# Altium integrated library NSC Switcher.IntLib: 2027 symbols (part 40 of 54)
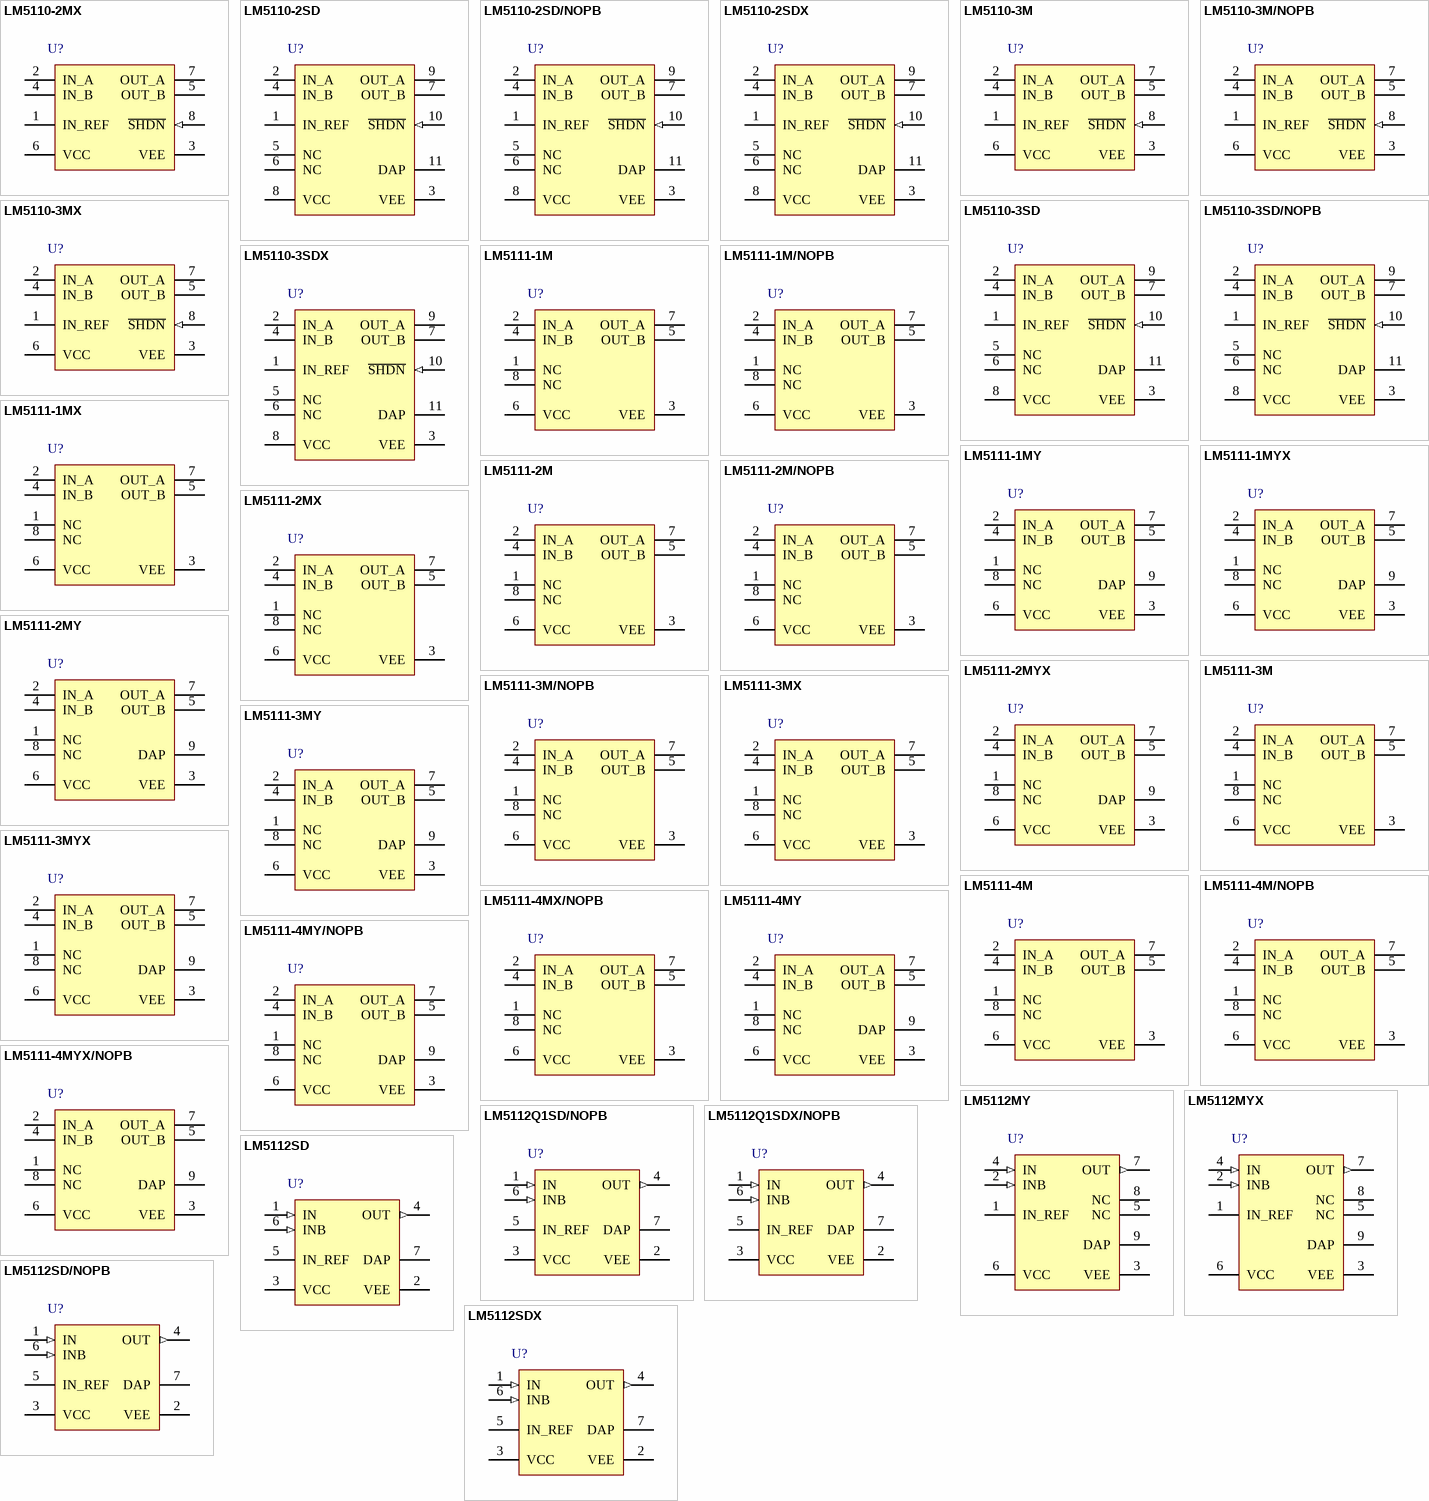
[diagram p102: symbols LM5110-2MX to LM5112SDX]

## LM5111-4MY
designator U?
Dual 5A Compound Gate Driver, 8-pin eMSOP; PartNumber: LM5111-4MY; Manufacturer: National Semiconductor; PackageTopMarking: ZXTT*SSYB; PowerWise: N; CompType: Switcher; Published: 4-Dec-2008; DatasheetVersion: Nov-2007; PackageVersion: revA, Nov-2003; PackageReference: MUY08A; Publisher: Altium Limited; PackageDescription: Molded Mini-SO, Exposed Pad, .118 x .118 x .034in Body, 8 Lead, .0256in Pitch; RoHS: Y; PinCount: 8; Code_JEDEC: MO-187-AA; ComponentLink1Description: LM5111 Datasheet; ComponentLink1URL: http://www.national.com/ds/LM/LM5111.pdf; ComponentLink2Description: LM5111 Web Page; ComponentLink2URL: http://www.national.com/pf/LM/LM5111.html; ComponentLink3Description: MUY08A Package Page; ComponentLink3URL: http://www.national.com/packaging/folders/muy08a.html
footprint MUY08A_N (TSOP, 8-Leads, Body 3x3mm, Pitch 0.65mm, Exposed Pad, IPC Medium Density)
footprint MUY08A_L (TSOP, 8-Leads, Body 3x3mm, Pitch 0.65mm, Exposed Pad, IPC High Density)
footprint MUY08A_M (TSOP, 8-Leads, Body 3x3mm, Pitch 0.65mm, Exposed Pad, IPC Low Density)
pins: 1 NC, 2 IN_A (power), 3 VEE (power), 4 IN_B (power), 5 OUT_B (power), 6 VCC (power), 7 OUT_A (power), 8 NC, 9 DAP (power)

## LM5111-4MY/NOPB
designator U?
Dual 5A Compound Gate Driver, 8-pin eMSOP, Pb-Free; PartNumber: LM5111-4MY/NOPB; Manufacturer: National Semiconductor; PackageTopMarking: ZXTT*SSYB; PowerWise: N; CompType: Switcher; Published: 1-Mar-2010; DatasheetVersion: Nov-2007; PackageVersion: revA, Nov-2003; PackageReference: MUY08A; Publisher: Altium Limited; PackageDescription: Molded Mini-SO, Exposed Pad, .118 x .118 x .034in Body, 8 Lead, .0256in Pitch; Supplier 1: Digi-Key; Supplier Part Number 1: LM5111-4MYTR-ND; Supplier 2: Digi-Key; Supplier Part Number 2: LM5111-4MYCT-ND; Supplier 3: Digi-Key; Supplier Part Number 3: LM5111-4MYDKR-ND; Supplier 4: Farnell; Supplier Part Number 4: 1685350; RoHS: Y; PinCount: 8; Code_JEDEC: MO-187-AA; ComponentLink1Description: LM5111 Datasheet; ComponentLink1URL: http://www.national.com/ds/LM/LM5111.pdf; ComponentLink2Description: LM5111 Web Page; ComponentLink2URL: http://www.national.com/pf/LM/LM5111.html; ComponentLink3Description: MUY08A Package Page; ComponentLink3URL: http://www.national.com/packaging/folders/muy08a.html
footprint MUY08A_N (TSOP, 8-Leads, Body 3x3mm, Pitch 0.65mm, Exposed Pad, IPC Medium Density)
footprint MUY08A_L (TSOP, 8-Leads, Body 3x3mm, Pitch 0.65mm, Exposed Pad, IPC High Density)
footprint MUY08A_M (TSOP, 8-Leads, Body 3x3mm, Pitch 0.65mm, Exposed Pad, IPC Low Density)
pins: 1 NC, 2 IN_A (power), 3 VEE (power), 4 IN_B (power), 5 OUT_B (power), 6 VCC (power), 7 OUT_A (power), 8 NC, 9 DAP (power)

## LM5111-4MYX/NOPB
designator U?
Dual 5A Compound Gate Driver, 8-pin eMSOP, Pb-Free; PartNumber: LM5111-4MYX/NOPB; Manufacturer: National Semiconductor; PackageTopMarking: ZXTT*SSYB; PowerWise: N; CompType: Switcher; Published: 1-Mar-2010; DatasheetVersion: Nov-2007; PackageVersion: revA, Nov-2003; PackageReference: MUY08A; Publisher: Altium Limited; PackageDescription: Molded Mini-SO, Exposed Pad, .118 x .118 x .034in Body, 8 Lead, .0256in Pitch; Supplier 1: Digi-Key; Supplier Part Number 1: LM5111-4MYX-ND; RoHS: Y; PinCount: 8; Code_JEDEC: MO-187-AA; ComponentLink1Description: LM5111 Datasheet; ComponentLink1URL: http://www.national.com/ds/LM/LM5111.pdf; ComponentLink2Description: LM5111 Web Page; ComponentLink2URL: http://www.national.com/pf/LM/LM5111.html; ComponentLink3Description: MUY08A Package Page; ComponentLink3URL: http://www.national.com/packaging/folders/muy08a.html
footprint MUY08A_N (TSOP, 8-Leads, Body 3x3mm, Pitch 0.65mm, Exposed Pad, IPC Medium Density)
footprint MUY08A_L (TSOP, 8-Leads, Body 3x3mm, Pitch 0.65mm, Exposed Pad, IPC High Density)
footprint MUY08A_M (TSOP, 8-Leads, Body 3x3mm, Pitch 0.65mm, Exposed Pad, IPC Low Density)
pins: 1 NC, 2 IN_A (power), 3 VEE (power), 4 IN_B (power), 5 OUT_B (power), 6 VCC (power), 7 OUT_A (power), 8 NC, 9 DAP (power)

## LM5112MY
designator U?
Tiny 7A MOSFET Gate Driver, 8-pin eMSOP; PartNumber: LM5112MY; Manufacturer: National Semiconductor; PackageTopMarking: ZXTT*SJJB; PowerWise: N; CompType: Switcher; Published: 4-Dec-2008; DatasheetVersion: Apr-2006; PackageVersion: revA, Nov-2003; PackageReference: MUY08A; Publisher: Altium Limited; PackageDescription: Molded Mini-SO, Exposed Pad, .118 x .118 x .034in Body, 8 Lead, .0256in Pitch; Supplier 1: Farnell; Supplier Part Number 1: 1312597; RoHS: N; PinCount: 8; Code_JEDEC: MO-187-AA; ComponentLink1Description: LM5112 Datasheet; ComponentLink1URL: http://www.national.com/ds/LM/LM5112.pdf; ComponentLink2Description: LM5112 Web Page; ComponentLink2URL: http://www.national.com/pf/LM/LM5112.html; ComponentLink3Description: MUY08A Package Page; ComponentLink3URL: http://www.national.com/packaging/folders/muy08a.html
footprint MUY08A_N (TSOP, 8-Leads, Body 3x3mm, Pitch 0.65mm, Exposed Pad, IPC Medium Density)
footprint MUY08A_L (TSOP, 8-Leads, Body 3x3mm, Pitch 0.65mm, Exposed Pad, IPC High Density)
footprint MUY08A_M (TSOP, 8-Leads, Body 3x3mm, Pitch 0.65mm, Exposed Pad, IPC Low Density)
pins: 1 IN_REF (power), 2 INB (in), 3 VEE (power), 4 IN (in), 5 NC, 6 VCC (power), 7 OUT (out), 8 NC, 9 DAP (power)

## LM5112MYX
designator U?
Tiny 7A MOSFET Gate Driver, 8-pin eMSOP; PartNumber: LM5112MYX; Manufacturer: National Semiconductor; PackageTopMarking: ZXTT*SJJB; PowerWise: N; CompType: Switcher; Published: 1-Mar-2010; DatasheetVersion: Apr-2006; PackageVersion: revA, Nov-2003; PackageReference: MUY08A; Publisher: Altium Limited; PackageDescription: Molded Mini-SO, Exposed Pad, .118 x .118 x .034in Body, 8 Lead, .0256in Pitch; RoHS: N; PinCount: 8; Code_JEDEC: MO-187-AA; ComponentLink1Description: LM5112 Datasheet; ComponentLink1URL: http://www.national.com/ds/LM/LM5112.pdf; ComponentLink2Description: LM5112 Web Page; ComponentLink2URL: http://www.national.com/pf/LM/LM5112.html; ComponentLink3Description: MUY08A Package Page; ComponentLink3URL: http://www.national.com/packaging/folders/muy08a.html
footprint MUY08A_N (TSOP, 8-Leads, Body 3x3mm, Pitch 0.65mm, Exposed Pad, IPC Medium Density)
footprint MUY08A_L (TSOP, 8-Leads, Body 3x3mm, Pitch 0.65mm, Exposed Pad, IPC High Density)
footprint MUY08A_M (TSOP, 8-Leads, Body 3x3mm, Pitch 0.65mm, Exposed Pad, IPC Low Density)
pins: 1 IN_REF (power), 2 INB (in), 3 VEE (power), 4 IN (in), 5 NC, 6 VCC (power), 7 OUT (out), 8 NC, 9 DAP (power)

## LM5112Q1SD/NOPB
designator U?
Tiny 7A MOSFET Gate Driver, 6-pin LLP, Pb-Free; PartNumber: LM5112Q1SD/NOPB; Manufacturer: National Semiconductor; PackageTopMarking: ZXYTT*L250B; PowerWise: N; CompType: Switcher; Published: 1-Mar-2010; DatasheetVersion: Apr-2006; PackageVersion: revA, Jul-2003; PackageReference: SDE06A; Publisher: Altium Limited; PackageDescription: LLP, Plastic, Dual, 3 x 3 x 0.8mm Body, 6 Lead, 0.95mm Pitch, No Pullback; Supplier 1: Digi-Key; Supplier Part Number 1: LM5112Q1SDTR-ND; Supplier 2: Digi-Key; Supplier Part Number 2: LM5112Q1SDCT-ND; Supplier 3: Digi-Key; Supplier Part Number 3: LM5112Q1SDDKR-ND; RoHS: Y; PinCount: 6; ComponentLink1Description: LM5112 Datasheet; ComponentLink1URL: http://www.national.com/ds/LM/LM5112.pdf; ComponentLink2Description: LM5112 Web Page; ComponentLink2URL: http://www.national.com/pf/LM/LM5112.html; ComponentLink3Description: SDE06A Package Page; ComponentLink3URL: http://www.national.com/packaging/folders/sde06a.html
footprint SDE06A_full (SON, 6-Leads, Body 3x3 mm, Pitch 0.95mm, Full Paste, NSC Recommended)
footprint SDE06A_quad (SON, 6-Leads, Body 3x3 mm, Pitch 0.95mm, Quad Paste, NSC Recommended)
pins: 1 IN (in), 2 VEE (power), 3 VCC (power), 4 OUT (out), 5 IN_REF (power), 6 INB (in), 7 DAP (power)

## LM5112Q1SDX/NOPB
designator U?
Tiny 7A MOSFET Gate Driver, 6-pin LLP, Pb-Free; PartNumber: LM5112Q1SDX/NOPB; Manufacturer: National Semiconductor; PackageTopMarking: ZXYTT*L250B; PowerWise: N; CompType: Switcher; Published: 1-Mar-2010; DatasheetVersion: Apr-2006; PackageVersion: revA, Jul-2003; PackageReference: SDE06A; Publisher: Altium Limited; PackageDescription: LLP, Plastic, Dual, 3 x 3 x 0.8mm Body, 6 Lead, 0.95mm Pitch, No Pullback; Supplier 1: Digi-Key; Supplier Part Number 1: LM5112Q1SDX/NOPB-ND; RoHS: Y; PinCount: 6; ComponentLink1Description: LM5112 Datasheet; ComponentLink1URL: http://www.national.com/ds/LM/LM5112.pdf; ComponentLink2Description: LM5112 Web Page; ComponentLink2URL: http://www.national.com/pf/LM/LM5112.html; ComponentLink3Description: SDE06A Package Page; ComponentLink3URL: http://www.national.com/packaging/folders/sde06a.html
footprint SDE06A_full (SON, 6-Leads, Body 3x3 mm, Pitch 0.95mm, Full Paste, NSC Recommended)
footprint SDE06A_quad (SON, 6-Leads, Body 3x3 mm, Pitch 0.95mm, Quad Paste, NSC Recommended)
pins: 1 IN (in), 2 VEE (power), 3 VCC (power), 4 OUT (out), 5 IN_REF (power), 6 INB (in), 7 DAP (power)

## LM5112SD
designator U?
Tiny 7A MOSFET Gate Driver, 6-pin LLP; PartNumber: LM5112SD; Manufacturer: National Semiconductor; PackageTopMarking: ZXYTT*L132B; PowerWise: N; CompType: Switcher; Published: 4-Dec-2008; DatasheetVersion: Apr-2006; PackageVersion: revA, Jul-2003; PackageReference: SDE06A; Publisher: Altium Limited; PackageDescription: LLP, Plastic, Dual, 3 x 3 x 0.8mm Body, 6 Lead, 0.95mm Pitch, No Pullback; RoHS: N; PinCount: 6; ComponentLink1Description: LM5112 Datasheet; ComponentLink1URL: http://www.national.com/ds/LM/LM5112.pdf; ComponentLink2Description: LM5112 Web Page; ComponentLink2URL: http://www.national.com/pf/LM/LM5112.html; ComponentLink3Description: SDE06A Package Page; ComponentLink3URL: http://www.national.com/packaging/folders/sde06a.html
footprint SDE06A_full (SON, 6-Leads, Body 3x3 mm, Pitch 0.95mm, Full Paste, NSC Recommended)
footprint SDE06A_quad (SON, 6-Leads, Body 3x3 mm, Pitch 0.95mm, Quad Paste, NSC Recommended)
pins: 1 IN (in), 2 VEE (power), 3 VCC (power), 4 OUT (out), 5 IN_REF (power), 6 INB (in), 7 DAP (power)

## LM5112SD/NOPB
designator U?
Tiny 7A MOSFET Gate Driver, 6-pin LLP, Pb-Free; PartNumber: LM5112SD/NOPB; Manufacturer: National Semiconductor; PackageTopMarking: ZXYTT*L132B; PowerWise: N; CompType: Switcher; Published: 1-Mar-2010; DatasheetVersion: Apr-2006; PackageVersion: revA, Jul-2003; PackageReference: SDE06A; Publisher: Altium Limited; PackageDescription: LLP, Plastic, Dual, 3 x 3 x 0.8mm Body, 6 Lead, 0.95mm Pitch, No Pullback; Supplier 1: Digi-Key; Supplier Part Number 1: LM5112SDTR-ND; Supplier 2: Digi-Key; Supplier Part Number 2: LM5112SDCT-ND; Supplier 3: Digi-Key; Supplier Part Number 3: LM5112SDDKR-ND; Supplier 4: Farnell; Supplier Part Number 4: 1685383; RoHS: Y; PinCount: 6; ComponentLink1Description: LM5112 Datasheet; ComponentLink1URL: http://www.national.com/ds/LM/LM5112.pdf; ComponentLink2Description: LM5112 Web Page; ComponentLink2URL: http://www.national.com/pf/LM/LM5112.html; ComponentLink3Description: SDE06A Package Page; ComponentLink3URL: http://www.national.com/packaging/folders/sde06a.html
footprint SDE06A_full (SON, 6-Leads, Body 3x3 mm, Pitch 0.95mm, Full Paste, NSC Recommended)
footprint SDE06A_quad (SON, 6-Leads, Body 3x3 mm, Pitch 0.95mm, Quad Paste, NSC Recommended)
pins: 1 IN (in), 2 VEE (power), 3 VCC (power), 4 OUT (out), 5 IN_REF (power), 6 INB (in), 7 DAP (power)

## LM5112SDX
designator U?
Tiny 7A MOSFET Gate Driver, 6-pin LLP; PartNumber: LM5112SDX; Manufacturer: National Semiconductor; PackageTopMarking: ZXYTT*L132B; PowerWise: N; CompType: Switcher; Published: 1-Mar-2010; DatasheetVersion: Apr-2006; PackageVersion: revA, Jul-2003; PackageReference: SDE06A; Publisher: Altium Limited; PackageDescription: LLP, Plastic, Dual, 3 x 3 x 0.8mm Body, 6 Lead, 0.95mm Pitch, No Pullback; RoHS: N; PinCount: 6; ComponentLink1Description: LM5112 Datasheet; ComponentLink1URL: http://www.national.com/ds/LM/LM5112.pdf; ComponentLink2Description: LM5112 Web Page; ComponentLink2URL: http://www.national.com/pf/LM/LM5112.html; ComponentLink3Description: SDE06A Package Page; ComponentLink3URL: http://www.national.com/packaging/folders/sde06a.html
footprint SDE06A_full (SON, 6-Leads, Body 3x3 mm, Pitch 0.95mm, Full Paste, NSC Recommended)
footprint SDE06A_quad (SON, 6-Leads, Body 3x3 mm, Pitch 0.95mm, Quad Paste, NSC Recommended)
pins: 1 IN (in), 2 VEE (power), 3 VCC (power), 4 OUT (out), 5 IN_REF (power), 6 INB (in), 7 DAP (power)

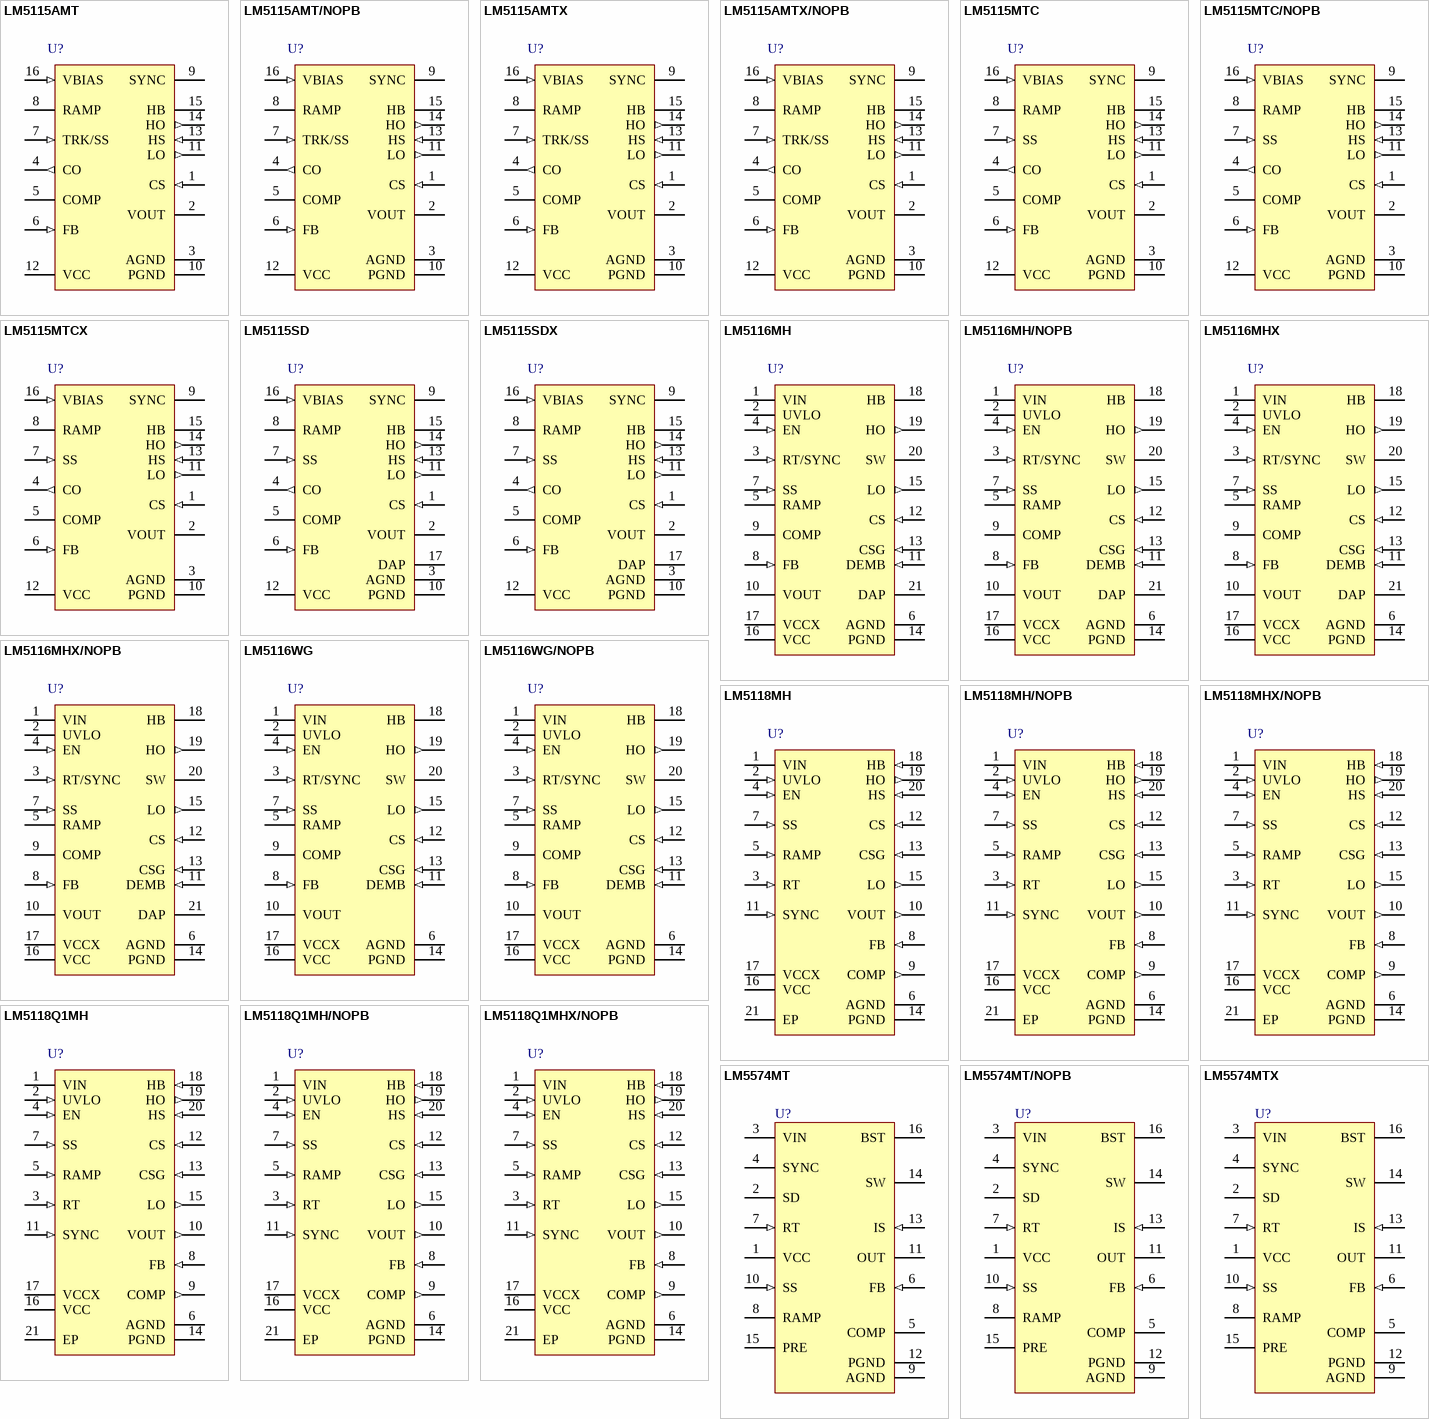
[diagram p44: symbols LM5115AMT to LM5574MTX]

## LM5115AMT
designator U?
Secondary Side Post Regulator / Synchronous Buck Controller, 16-pin TSSOP; PartNumber: LM5115AMT; Manufacturer: National Semiconductor; PackageTopMarking: NSUZXYTT*LM5115*AMT; PowerWise: N; CompType: Switcher; Published: 4-Dec-2008; DatasheetVersion: Jan-2007; PackageVersion: revD, Jun-2003; PackageReference: MTC16; Publisher: Altium Limited; PackageDescription: Molded TSSOP, Jedec, 5 x 4.4 x 0.9mm Body, 16 Lead, 0.65mm Pitch; Supplier 1: Farnell; Supplier Part Number 1: 1320977; RoHS: N; PinCount: 16; Code_JEDEC: MO-153-AB; ComponentLink1Description: LM5115A Datasheet; ComponentLink1URL: http://www.national.com/ds/LM/LM5115A.pdf; ComponentLink2Description: LM5115A Web Page; ComponentLink2URL: http://www.national.com/pf/LM/LM5115A.html; ComponentLink3Description: MTC16 Package Page; ComponentLink3URL: http://www.national.com/packaging/folders/mtc16.html
footprint MTC16_N (TSOP, 16-Leads, Body 5x4.4mm, Pitch 0.65mm, IPC Medium Density)
footprint MTC16_L (TSOP, 16-Leads, Body 5x4.4mm, Pitch 0.65mm, IPC High Density)
footprint MTC16_M (TSOP, 16-Leads, Body 5x4.4mm, Pitch 0.65mm, IPC Low Density)
pins: 1 CS (in), 2 VOUT, 3 AGND (power), 4 CO (out), 5 COMP, 6 FB (in), 7 TRK/SS (in), 8 RAMP, 9 SYNC, 10 PGND (power), 11 LO (out), 12 VCC (power), 13 HS (in), 14 HO (out), 15 HB, 16 VBIAS (in)

## LM5115AMT/NOPB
designator U?
Secondary Side Post Regulator/DC-DC Converter with Power-up/Power-down Tracking, 16-pin TSSOP, Pb-Free; PartNumber: LM5115AMT/NOPB; Manufacturer: National Semiconductor; PackageTopMarking: NSUZXYTT*LM5115*AMT; PowerWise: N; CompType: Switcher; Published: 1-Mar-2010; DatasheetVersion: Jan-2007; PackageVersion: revD, Jun-2003; PackageReference: MTC16; Publisher: Altium Limited; PackageDescription: Molded TSSOP, Jedec, 5 x 4.4 x 0.9mm Body, 16 Lead, 0.65mm Pitch; Supplier 1: Digi-Key; Supplier Part Number 1: LM5115AMT-ND; RoHS: Y; PinCount: 16; Code_JEDEC: MO-153-AB; ComponentLink1Description: LM5115A Datasheet; ComponentLink1URL: http://www.national.com/ds/LM/LM5115A.pdf; ComponentLink2Description: LM5115A Web Page; ComponentLink2URL: http://www.national.com/pf/LM/LM5115A.html; ComponentLink3Description: MTC16 Package Page; ComponentLink3URL: http://www.national.com/packaging/folders/mtc16.html
footprint MTC16_N (TSOP, 16-Leads, Body 5x4.4mm, Pitch 0.65mm, IPC Medium Density)
footprint MTC16_L (TSOP, 16-Leads, Body 5x4.4mm, Pitch 0.65mm, IPC High Density)
footprint MTC16_M (TSOP, 16-Leads, Body 5x4.4mm, Pitch 0.65mm, IPC Low Density)
pins: 1 CS (in), 2 VOUT, 3 AGND (power), 4 CO (out), 5 COMP, 6 FB (in), 7 TRK/SS (in), 8 RAMP, 9 SYNC, 10 PGND (power), 11 LO (out), 12 VCC (power), 13 HS (in), 14 HO (out), 15 HB, 16 VBIAS (in)

## LM5115AMTX
designator U?
Secondary Side Post Regulator/DC-DC Converter with Power-up/Power-down Tracking, 16-pin TSSOP; PartNumber: LM5115AMTX; Manufacturer: National Semiconductor; PackageTopMarking: NSUZXYTT*LM5115*AMT; PowerWise: N; CompType: Switcher; Published: 1-Mar-2010; DatasheetVersion: Jan-2007; PackageVersion: revD, Jun-2003; PackageReference: MTC16; Publisher: Altium Limited; PackageDescription: Molded TSSOP, Jedec, 5 x 4.4 x 0.9mm Body, 16 Lead, 0.65mm Pitch; RoHS: N; PinCount: 16; Code_JEDEC: MO-153-AB; ComponentLink1Description: LM5115A Datasheet; ComponentLink1URL: http://www.national.com/ds/LM/LM5115A.pdf; ComponentLink2Description: LM5115A Web Page; ComponentLink2URL: http://www.national.com/pf/LM/LM5115A.html; ComponentLink3Description: MTC16 Package Page; ComponentLink3URL: http://www.national.com/packaging/folders/mtc16.html
footprint MTC16_N (TSOP, 16-Leads, Body 5x4.4mm, Pitch 0.65mm, IPC Medium Density)
footprint MTC16_L (TSOP, 16-Leads, Body 5x4.4mm, Pitch 0.65mm, IPC High Density)
footprint MTC16_M (TSOP, 16-Leads, Body 5x4.4mm, Pitch 0.65mm, IPC Low Density)
pins: 1 CS (in), 2 VOUT, 3 AGND (power), 4 CO (out), 5 COMP, 6 FB (in), 7 TRK/SS (in), 8 RAMP, 9 SYNC, 10 PGND (power), 11 LO (out), 12 VCC (power), 13 HS (in), 14 HO (out), 15 HB, 16 VBIAS (in)

## LM5115AMTX/NOPB
designator U?
Secondary Side Post Regulator/DC-DC Converter with Power-up/Power-down Tracking, 16-pin TSSOP, Pb-Free; PartNumber: LM5115AMTX/NOPB; Manufacturer: National Semiconductor; PackageTopMarking: NSUZXYTT*LM5115*AMT; PowerWise: N; CompType: Switcher; Published: 1-Mar-2010; DatasheetVersion: Jan-2007; PackageVersion: revD, Jun-2003; PackageReference: MTC16; Publisher: Altium Limited; PackageDescription: Molded TSSOP, Jedec, 5 x 4.4 x 0.9mm Body, 16 Lead, 0.65mm Pitch; Supplier 1: Digi-Key; Supplier Part Number 1: LM5115AMTX-ND; RoHS: Y; PinCount: 16; Code_JEDEC: MO-153-AB; ComponentLink1Description: LM5115A Datasheet; ComponentLink1URL: http://www.national.com/ds/LM/LM5115A.pdf; ComponentLink2Description: LM5115A Web Page; ComponentLink2URL: http://www.national.com/pf/LM/LM5115A.html; ComponentLink3Description: MTC16 Package Page; ComponentLink3URL: http://www.national.com/packaging/folders/mtc16.html
footprint MTC16_N (TSOP, 16-Leads, Body 5x4.4mm, Pitch 0.65mm, IPC Medium Density)
footprint MTC16_L (TSOP, 16-Leads, Body 5x4.4mm, Pitch 0.65mm, IPC High Density)
footprint MTC16_M (TSOP, 16-Leads, Body 5x4.4mm, Pitch 0.65mm, IPC Low Density)
pins: 1 CS (in), 2 VOUT, 3 AGND (power), 4 CO (out), 5 COMP, 6 FB (in), 7 TRK/SS (in), 8 RAMP, 9 SYNC, 10 PGND (power), 11 LO (out), 12 VCC (power), 13 HS (in), 14 HO (out), 15 HB, 16 VBIAS (in)

## LM5115MTC
designator U?
Secondary Side Post Regulator / Synchronous Buck Controller, 16-pin TSSOP; PartNumber: LM5115MTC; Manufacturer: National Semiconductor; PackageTopMarking: NSUZXYTT*LM5115*MTC; PowerWise: N; CompType: Switcher; Published: 4-Dec-2008; DatasheetVersion: Jul-2006; PackageVersion: revD, Jun-2003; PackageReference: MTC16; Publisher: Altium Limited; PackageDescription: Molded TSSOP, Jedec, 5 x 4.4 x 0.9mm Body, 16 Lead, 0.65mm Pitch; Supplier 1: Farnell; Supplier Part Number 1: 1008034; RoHS: N; PinCount: 16; Code_JEDEC: MO-153-AB; ComponentLink1Description: LM5115 Datasheet; ComponentLink1URL: http://www.national.com/ds/LM/LM5115.pdf; ComponentLink2Description: LM5115 Web Page; ComponentLink2URL: http://www.national.com/pf/LM/LM5115.html; ComponentLink3Description: MTC16 Package Page; ComponentLink3URL: http://www.national.com/packaging/folders/mtc16.html
footprint MTC16_N (TSOP, 16-Leads, Body 5x4.4mm, Pitch 0.65mm, IPC Medium Density)
footprint MTC16_L (TSOP, 16-Leads, Body 5x4.4mm, Pitch 0.65mm, IPC High Density)
footprint MTC16_M (TSOP, 16-Leads, Body 5x4.4mm, Pitch 0.65mm, IPC Low Density)
pins: 1 CS (in), 2 VOUT, 3 AGND (power), 4 CO (out), 5 COMP, 6 FB (in), 7 SS (in), 8 RAMP, 9 SYNC, 10 PGND (power), 11 LO (out), 12 VCC (power), 13 HS (in), 14 HO (out), 15 HB, 16 VBIAS (in)

## LM5115MTC/NOPB
designator U?
Secondary Side Post Regulator / Synchronous Buck Controller, 16-pin TSSOP, Pb-Free; PartNumber: LM5115MTC/NOPB; Manufacturer: National Semiconductor; PackageTopMarking: NSUZXYTT*LM5115*MTC; PowerWise: N; CompType: Switcher; Published: 1-Mar-2010; DatasheetVersion: Jul-2006; PackageVersion: revD, Jun-2003; PackageReference: MTC16; Publisher: Altium Limited; PackageDescription: Molded TSSOP, Jedec, 5 x 4.4 x 0.9mm Body, 16 Lead, 0.65mm Pitch; Supplier 1: Digi-Key; Supplier Part Number 1: LM5115MTC-ND; Supplier 2: Farnell; Supplier Part Number 2: 1559522; RoHS: Y; PinCount: 16; Code_JEDEC: MO-153-AB; ComponentLink1Description: LM5115 Datasheet; ComponentLink1URL: http://www.national.com/ds/LM/LM5115.pdf; ComponentLink2Description: LM5115 Web Page; ComponentLink2URL: http://www.national.com/pf/LM/LM5115.html; ComponentLink3Description: MTC16 Package Page; ComponentLink3URL: http://www.national.com/packaging/folders/mtc16.html
footprint MTC16_N (TSOP, 16-Leads, Body 5x4.4mm, Pitch 0.65mm, IPC Medium Density)
footprint MTC16_L (TSOP, 16-Leads, Body 5x4.4mm, Pitch 0.65mm, IPC High Density)
footprint MTC16_M (TSOP, 16-Leads, Body 5x4.4mm, Pitch 0.65mm, IPC Low Density)
pins: 1 CS (in), 2 VOUT, 3 AGND (power), 4 CO (out), 5 COMP, 6 FB (in), 7 SS (in), 8 RAMP, 9 SYNC, 10 PGND (power), 11 LO (out), 12 VCC (power), 13 HS (in), 14 HO (out), 15 HB, 16 VBIAS (in)

## LM5115MTCX
designator U?
Secondary Side Post Regulator / Synchronous Buck Controller, 16-pin TSSOP; PartNumber: LM5115MTCX; Manufacturer: National Semiconductor; PackageTopMarking: NSUZXYTT*LM5115*MTC; PowerWise: N; CompType: Switcher; Published: 1-Mar-2010; DatasheetVersion: Jul-2006; PackageVersion: revD, Jun-2003; PackageReference: MTC16; Publisher: Altium Limited; PackageDescription: Molded TSSOP, Jedec, 5 x 4.4 x 0.9mm Body, 16 Lead, 0.65mm Pitch; RoHS: N; PinCount: 16; Code_JEDEC: MO-153-AB; ComponentLink1Description: LM5115 Datasheet; ComponentLink1URL: http://www.national.com/ds/LM/LM5115.pdf; ComponentLink2Description: LM5115 Web Page; ComponentLink2URL: http://www.national.com/pf/LM/LM5115.html; ComponentLink3Description: MTC16 Package Page; ComponentLink3URL: http://www.national.com/packaging/folders/mtc16.html
footprint MTC16_N (TSOP, 16-Leads, Body 5x4.4mm, Pitch 0.65mm, IPC Medium Density)
footprint MTC16_L (TSOP, 16-Leads, Body 5x4.4mm, Pitch 0.65mm, IPC High Density)
footprint MTC16_M (TSOP, 16-Leads, Body 5x4.4mm, Pitch 0.65mm, IPC Low Density)
pins: 1 CS (in), 2 VOUT, 3 AGND (power), 4 CO (out), 5 COMP, 6 FB (in), 7 SS (in), 8 RAMP, 9 SYNC, 10 PGND (power), 11 LO (out), 12 VCC (power), 13 HS (in), 14 HO (out), 15 HB, 16 VBIAS (in)

## LM5115SD
designator U?
Secondary Side Post Regulator / Synchronous Buck Controller, 16-pin LLP; PartNumber: LM5115SD; Manufacturer: National Semiconductor; PackageTopMarking: NS*UZXYTT*5115SD; PowerWise: N; CompType: Switcher; Published: 4-Dec-2008; DatasheetVersion: Jul-2006; PackageVersion: revA, May-2003; PackageReference: SDA16A; Publisher: Altium Limited; PackageDescription: LLP, Plastic, Dual, 5 x 5 x 0.8mm Body,16 Lead, 0.5mm Pitch, No Pullback; RoHS: N; PinCount: 16; ComponentLink1Description: LM5115 Datasheet; ComponentLink1URL: http://www.national.com/ds/LM/LM5115.pdf; ComponentLink2Description: LM5115 Web Page; ComponentLink2URL: http://www.national.com/pf/LM/LM5115.html; ComponentLink3Description: SDA16A Package Page; ComponentLink3URL: http://www.national.com/packaging/folders/sda16a.html
footprint SDA16A (SON, 16-Leads, Body 5x5mm, Pitch 0.5mm, NSC Recommended)
pins: 1 CS (in), 2 VOUT, 3 AGND (power), 4 CO (out), 5 COMP, 6 FB (in), 7 SS (in), 8 RAMP, 9 SYNC, 10 PGND (power), 11 LO (out), 12 VCC (power), 13 HS (in), 14 HO (out), 15 HB, 16 VBIAS (in), 17 DAP (power)

## LM5115SDX
designator U?
Secondary Side Post Regulator / Synchronous Buck Controller, 16-pin LLP; PartNumber: LM5115SDX; Manufacturer: National Semiconductor; PackageTopMarking: NS*UZXYTT*5115SD; PowerWise: N; CompType: Switcher; Published: 1-Mar-2010; DatasheetVersion: Jul-2006; PackageVersion: revA, May-2003; PackageReference: SDA16A; Publisher: Altium Limited; PackageDescription: LLP, Plastic, Dual, 5 x 5 x 0.8mm Body,16 Lead, 0.5mm Pitch, No Pullback; RoHS: N; PinCount: 16; ComponentLink1Description: LM5115 Datasheet; ComponentLink1URL: http://www.national.com/ds/LM/LM5115.pdf; ComponentLink2Description: LM5115 Web Page; ComponentLink2URL: http://www.national.com/pf/LM/LM5115.html; ComponentLink3Description: SDA16A Package Page; ComponentLink3URL: http://www.national.com/packaging/folders/sda16a.html
footprint SDA16A (SON, 16-Leads, Body 5x5mm, Pitch 0.5mm, NSC Recommended)
pins: 1 CS (in), 2 VOUT, 3 AGND (power), 4 CO (out), 5 COMP, 6 FB (in), 7 SS (in), 8 RAMP, 9 SYNC, 10 PGND (power), 11 LO (out), 12 VCC (power), 13 HS (in), 14 HO (out), 15 HB, 16 VBIAS (in), 17 DAP (power)

## LM5116MH
designator U?
Wide Range Synchronous Buck Controller, 20-pin TSSOP-EP; PartNumber: LM5116MH; Manufacturer: National Semiconductor; PackageTopMarking: NSUZXYTT*LM5116*MH; PowerWise: Y; CompType: Switcher; Published: 4-Dec-2008; DatasheetVersion: Nov-2008; PackageVersion: revC, Jul-2006; PackageReference: MXA20A; Publisher: Altium Limited; PackageDescription: Molded TSSOP, Jedec, 6.5 x 4.4 x 0.9mm Body, 20 Lead, 0.65mm Pitch, Exposed Pad; Supplier 1: Farnell; Supplier Part Number 1: 1342345; RoHS: N; PinCount: 20; Code_JEDEC: MO-153-ACT; ComponentLink1Description: LM5116 Datasheet; ComponentLink1URL: http://www.national.com/ds/LM/LM5116.pdf; ComponentLink2Description: LM5116 Web Page; ComponentLink2URL: http://www.national.com/pf/LM/LM5116.html; ComponentLink3Description: MXA20A Package Page; ComponentLink3URL: http://www.national.com/packaging/folders/mxa20a.html
footprint MXA20A_N (TSOP, 20-Leads, Body 6.5x4.4mm, Pitch 0.65mm, Exposed Pad, IPC Medium Density)
footprint MXA20A_L (TSOP, 20-Leads, Body 6.5x4.4mm, Pitch 0.65mm, Exposed Pad, IPC High Density)
footprint MXA20A_M (TSOP, 20-Leads, Body 6.5x4.4mm, Pitch 0.65mm, Exposed Pad, IPC Low Density)
pins: 1 VIN (power), 2 UVLO, 3 RT/SYNC (in), 4 EN (in), 5 RAMP, 6 AGND (power), 7 SS (in), 8 FB (in), 9 COMP, 10 VOUT, 11 DEMB (in), 12 CS (in), 13 CSG (in), 14 PGND (power), 15 LO (out), 16 VCC (power), 17 VCCX (power), 18 HB, 19 HO (out), 20 SW (power), 21 DAP (power)

## LM5116MH/NOPB
designator U?
Wide Range Synchronous Buck Controller, 20-pin TSSOP-EP, Pb-Free; PartNumber: LM5116MH/NOPB; Manufacturer: National Semiconductor; PackageTopMarking: NSUZXYTT*LM5116*MH; PowerWise: Y; CompType: Switcher; Published: 1-Mar-2010; DatasheetVersion: Nov-2008; PackageVersion: revC, Jul-2006; PackageReference: MXA20A; Publisher: Altium Limited; PackageDescription: Molded TSSOP, Jedec, 6.5 x 4.4 x 0.9mm Body, 20 Lead, 0.65mm Pitch, Exposed Pad; Supplier 1: Digi-Key; Supplier Part Number 1: LM5116MH-ND; Supplier 2: Farnell; Supplier Part Number 2: 1419086; RoHS: Y; PinCount: 20; Code_JEDEC: MO-153-ACT; ComponentLink1Description: LM5116 Datasheet; ComponentLink1URL: http://www.national.com/ds/LM/LM5116.pdf; ComponentLink2Description: LM5116 Web Page; ComponentLink2URL: http://www.national.com/pf/LM/LM5116.html; ComponentLink3Description: MXA20A Package Page; ComponentLink3URL: http://www.national.com/packaging/folders/mxa20a.html
footprint MXA20A_N (TSOP, 20-Leads, Body 6.5x4.4mm, Pitch 0.65mm, Exposed Pad, IPC Medium Density)
footprint MXA20A_L (TSOP, 20-Leads, Body 6.5x4.4mm, Pitch 0.65mm, Exposed Pad, IPC High Density)
footprint MXA20A_M (TSOP, 20-Leads, Body 6.5x4.4mm, Pitch 0.65mm, Exposed Pad, IPC Low Density)
pins: 1 VIN (power), 2 UVLO, 3 RT/SYNC (in), 4 EN (in), 5 RAMP, 6 AGND (power), 7 SS (in), 8 FB (in), 9 COMP, 10 VOUT, 11 DEMB (in), 12 CS (in), 13 CSG (in), 14 PGND (power), 15 LO (out), 16 VCC (power), 17 VCCX (power), 18 HB, 19 HO (out), 20 SW (power), 21 DAP (power)

## LM5116MHX
designator U?
Wide Range Synchronous Buck Controller, 20-pin TSSOP-EP; PartNumber: LM5116MHX; Manufacturer: National Semiconductor; PackageTopMarking: NSUZXYTT*LM5116*MH; PowerWise: Y; CompType: Switcher; Published: 1-Mar-2010; DatasheetVersion: Nov-2008; PackageVersion: revC, Jul-2006; PackageReference: MXA20A; Publisher: Altium Limited; PackageDescription: Molded TSSOP, Jedec, 6.5 x 4.4 x 0.9mm Body, 20 Lead, 0.65mm Pitch, Exposed Pad; RoHS: N; PinCount: 20; Code_JEDEC: MO-153-ACT; ComponentLink1Description: LM5116 Datasheet; ComponentLink1URL: http://www.national.com/ds/LM/LM5116.pdf; ComponentLink2Description: LM5116 Web Page; ComponentLink2URL: http://www.national.com/pf/LM/LM5116.html; ComponentLink3Description: MXA20A Package Page; ComponentLink3URL: http://www.national.com/packaging/folders/mxa20a.html
footprint MXA20A_N (TSOP, 20-Leads, Body 6.5x4.4mm, Pitch 0.65mm, Exposed Pad, IPC Medium Density)
footprint MXA20A_L (TSOP, 20-Leads, Body 6.5x4.4mm, Pitch 0.65mm, Exposed Pad, IPC High Density)
footprint MXA20A_M (TSOP, 20-Leads, Body 6.5x4.4mm, Pitch 0.65mm, Exposed Pad, IPC Low Density)
pins: 1 VIN (power), 2 UVLO, 3 RT/SYNC (in), 4 EN (in), 5 RAMP, 6 AGND (power), 7 SS (in), 8 FB (in), 9 COMP, 10 VOUT, 11 DEMB (in), 12 CS (in), 13 CSG (in), 14 PGND (power), 15 LO (out), 16 VCC (power), 17 VCCX (power), 18 HB, 19 HO (out), 20 SW (power), 21 DAP (power)

## LM5116MHX/NOPB
designator U?
Wide Range Synchronous Buck Controller, 20-pin TSSOP-EP, Pb-Free; PartNumber: LM5116MHX/NOPB; Manufacturer: National Semiconductor; PackageTopMarking: NSUZXYTT*LM5116*MH; PowerWise: Y; CompType: Switcher; Published: 1-Mar-2010; DatasheetVersion: Nov-2008; PackageVersion: revC, Jul-2006; PackageReference: MXA20A; Publisher: Altium Limited; PackageDescription: Molded TSSOP, Jedec, 6.5 x 4.4 x 0.9mm Body, 20 Lead, 0.65mm Pitch, Exposed Pad; Supplier 1: Digi-Key; Supplier Part Number 1: LM5116MHX-ND; RoHS: Y; PinCount: 20; Code_JEDEC: MO-153-ACT; ComponentLink1Description: LM5116 Datasheet; ComponentLink1URL: http://www.national.com/ds/LM/LM5116.pdf; ComponentLink2Description: LM5116 Web Page; ComponentLink2URL: http://www.national.com/pf/LM/LM5116.html; ComponentLink3Description: MXA20A Package Page; ComponentLink3URL: http://www.national.com/packaging/folders/mxa20a.html
footprint MXA20A_N (TSOP, 20-Leads, Body 6.5x4.4mm, Pitch 0.65mm, Exposed Pad, IPC Medium Density)
footprint MXA20A_L (TSOP, 20-Leads, Body 6.5x4.4mm, Pitch 0.65mm, Exposed Pad, IPC High Density)
footprint MXA20A_M (TSOP, 20-Leads, Body 6.5x4.4mm, Pitch 0.65mm, Exposed Pad, IPC Low Density)
pins: 1 VIN (power), 2 UVLO, 3 RT/SYNC (in), 4 EN (in), 5 RAMP, 6 AGND (power), 7 SS (in), 8 FB (in), 9 COMP, 10 VOUT, 11 DEMB (in), 12 CS (in), 13 CSG (in), 14 PGND (power), 15 LO (out), 16 VCC (power), 17 VCCX (power), 18 HB, 19 HO (out), 20 SW (power), 21 DAP (power)

## LM5116WG
designator U?
Wide Range Synchronous Buck Controller, 20-pin CerPACK; PartNumber: LM5116WG; Manufacturer: National Semiconductor; PackageTopMarking: NSUZXYTT*LM5116WG; PowerWise: Y; CompType: Switcher; Published: 4-Dec-2008; DatasheetVersion: Oct-2008; PackageVersion: revD, Aug-2008; PackageReference: WG20A; Publisher: Altium Limited; PackageDescription: Cerpack, .540 x .266 x .075in, 20 Lead, .050in Pitch, Gull Wing; RoHS: Y; PinCount: 20; ComponentLink1Description: LM5116WG Datasheet; ComponentLink1URL: http://www.national.com/ds/LM/LM5116WG.pdf; ComponentLink2Description: LM5116WG Web Page; ComponentLink2URL: http://www.national.com/pf/LM/LM5116WG.html; ComponentLink3Description: WG20A Package Page; ComponentLink3URL: http://www.national.com/packaging/folders/wg20a.html
footprint WG20A_N (CERPACK, 20-Leads, Body 26.6x9.4mm, Pitch 1.27mm, IPC Medium Density)
footprint WG20A_L (CERPACK, 20-Leads, Body 26.6x9.4mm, Pitch 1.27mm, IPC High Density)
footprint WG20A_M (CERPACK, 20-Leads, Body 26.6x9.4mm, Pitch 1.27mm, IPC Low Density)
pins: 1 VIN (power), 2 UVLO, 3 RT/SYNC (in), 4 EN (in), 5 RAMP, 6 AGND (power), 7 SS (in), 8 FB (in), 9 COMP, 10 VOUT, 11 DEMB (in), 12 CS (in), 13 CSG (in), 14 PGND (power), 15 LO (out), 16 VCC (power), 17 VCCX (power), 18 HB, 19 HO (out), 20 SW (power)

## LM5116WG/NOPB
designator U?
Wide Range Synchronous Buck Controller, 20-pin CerPACK, Pb-Free; PartNumber: LM5116WG/NOPB; Manufacturer: National Semiconductor; PackageTopMarking: NSUZXYTTE#*LM5116WG; PowerWise: Y; CompType: Switcher; Published: 1-Mar-2010; DatasheetVersion: Oct-2008; PackageVersion: revD, Aug-2008; PackageReference: WG20A; Publisher: Altium Limited; PackageDescription: Cerpack, .540 x .266 x .075in, 20 Lead, .050in Pitch, Gull Wing; RoHS: Y; PinCount: 20; ComponentLink1Description: LM5116WG Datasheet; ComponentLink1URL: http://www.national.com/ds/LM/LM5116WG.pdf; ComponentLink2Description: LM5116WG Web Page; ComponentLink2URL: http://www.national.com/pf/LM/LM5116WG.html; ComponentLink3Description: WG20A Package Page; ComponentLink3URL: http://www.national.com/packaging/folders/wg20a.html
footprint WG20A_N (CERPACK, 20-Leads, Body 26.6x9.4mm, Pitch 1.27mm, IPC Medium Density)
footprint WG20A_L (CERPACK, 20-Leads, Body 26.6x9.4mm, Pitch 1.27mm, IPC High Density)
footprint WG20A_M (CERPACK, 20-Leads, Body 26.6x9.4mm, Pitch 1.27mm, IPC Low Density)
pins: 1 VIN (power), 2 UVLO, 3 RT/SYNC (in), 4 EN (in), 5 RAMP, 6 AGND (power), 7 SS (in), 8 FB (in), 9 COMP, 10 VOUT, 11 DEMB (in), 12 CS (in), 13 CSG (in), 14 PGND (power), 15 LO (out), 16 VCC (power), 17 VCCX (power), 18 HB, 19 HO (out), 20 SW (power)

## LM5118MH
designator U?
Wide Voltage Range Buck-Boost Controller, 20-pin TSSOP-EP; PartNumber: LM5118MH; Manufacturer: National Semiconductor; PackageTopMarking: NSUZXYTT*LM5118*MH; PowerWise: Y; CompType: Switcher; Published: 4-Dec-2008; LatestRevisionDate: 09-Oct-2009; LatestRevisionNote: pin added for EP.; DatasheetVersion: Jul-2009; PackageVersion: revC, Jul-2006; PackageReference: MXA20A; Publisher: Altium Limited; PackageDescription: Molded TSSOP, Jedec, 6.5 x 4.4 x 0.9mm Body, 20 Lead, 0.65mm Pitch, Exposed Pad; Supplier 1: Farnell; Supplier Part Number 1: 1609187; RoHS: Y; PinCount: 20; Code_JEDEC: MO-153-ACT; ComponentLink1Description: LM5118 Datasheet; ComponentLink1URL: http://www.national.com/ds/LM/LM5118.pdf; ComponentLink2Description: LM5118 Web Page; ComponentLink2URL: http://www.national.com/pf/LM/LM5118.html; ComponentLink3Description: MXA20A Package Page; ComponentLink3URL: http://www.national.com/packaging/folders/mxa20a.html
footprint MXA20A_N (TSOP, 20-Leads, Body 6.5x4.4mm, Pitch 0.65mm, Exposed Pad, IPC Medium Density)
footprint MXA20A_L (TSOP, 20-Leads, Body 6.5x4.4mm, Pitch 0.65mm, Exposed Pad, IPC High Density)
footprint MXA20A_M (TSOP, 20-Leads, Body 6.5x4.4mm, Pitch 0.65mm, Exposed Pad, IPC Low Density)
pins: 1 VIN (power), 2 UVLO (in), 3 RT (in), 4 EN (in), 5 RAMP (in), 6 AGND (power), 7 SS (in), 8 FB (in), 9 COMP (out), 10 VOUT (out), 11 SYNC (in), 12 CS (in), 13 CSG (in), 14 PGND (power), 15 LO (out), 16 VCC (power), 17 VCCX (power), 18 HB (in), 19 HO (out), 20 HS (in), 21 EP (power)

## LM5118MH/NOPB
designator U?
Wide Voltage Range Buck-Boost Controller, 20-pin TSSOP-EP, Pb-Free; PartNumber: LM5118MH/NOPB; Manufacturer: National Semiconductor; PackageTopMarking: NSUZXYTT*LM5118*MH; PowerWise: Y; CompType: Switcher; Published: 1-Mar-2010; DatasheetVersion: Jul-2009; PackageVersion: revC, Jul-2006; PackageReference: MXA20A; Publisher: Altium Limited; PackageDescription: Molded TSSOP, Jedec, 6.5 x 4.4 x 0.9mm Body, 20 Lead, 0.65mm Pitch, Exposed Pad; Supplier 1: Digi-Key; Supplier Part Number 1: LM5118MH-ND; Supplier 2: Farnell; Supplier Part Number 2: 1606457; RoHS: Y; PinCount: 20; Code_JEDEC: MO-153-ACT; ComponentLink1Description: LM5118 Datasheet; ComponentLink1URL: http://www.national.com/ds/LM/LM5118.pdf; ComponentLink2Description: LM5118 Web Page; ComponentLink2URL: http://www.national.com/pf/LM/LM5118.html; ComponentLink3Description: MXA20A Package Page; ComponentLink3URL: http://www.national.com/packaging/folders/mxa20a.html
footprint MXA20A_N (TSOP, 20-Leads, Body 6.5x4.4mm, Pitch 0.65mm, Exposed Pad, IPC Medium Density)
footprint MXA20A_L (TSOP, 20-Leads, Body 6.5x4.4mm, Pitch 0.65mm, Exposed Pad, IPC High Density)
footprint MXA20A_M (TSOP, 20-Leads, Body 6.5x4.4mm, Pitch 0.65mm, Exposed Pad, IPC Low Density)
pins: 1 VIN (power), 2 UVLO (in), 3 RT (in), 4 EN (in), 5 RAMP (in), 6 AGND (power), 7 SS (in), 8 FB (in), 9 COMP (out), 10 VOUT (out), 11 SYNC (in), 12 CS (in), 13 CSG (in), 14 PGND (power), 15 LO (out), 16 VCC (power), 17 VCCX (power), 18 HB (in), 19 HO (out), 20 HS (in), 21 EP (power)

## LM5118MHX/NOPB
designator U?
Wide Voltage Range Buck-Boost Controller, 20-pin TSSOP-EP, Pb-Free; PartNumber: LM5118MHX/NOPB; Manufacturer: National Semiconductor; PackageTopMarking: NSUZXYTT*LM5118*MH; PowerWise: Y; CompType: Switcher; Published: 1-Mar-2010; DatasheetVersion: Jul-2009; PackageVersion: revC, Jul-2006; PackageReference: MXA20A; Publisher: Altium Limited; PackageDescription: Molded TSSOP, Jedec, 6.5 x 4.4 x 0.9mm Body, 20 Lead, 0.65mm Pitch, Exposed Pad; Supplier 1: Digi-Key; Supplier Part Number 1: LM5118MHX-ND; RoHS: Y; PinCount: 20; Code_JEDEC: MO-153-ACT; ComponentLink1Description: LM5118 Datasheet; ComponentLink1URL: http://www.national.com/ds/LM/LM5118.pdf; ComponentLink2Description: LM5118 Web Page; ComponentLink2URL: http://www.national.com/pf/LM/LM5118.html; ComponentLink3Description: MXA20A Package Page; ComponentLink3URL: http://www.national.com/packaging/folders/mxa20a.html
footprint MXA20A_N (TSOP, 20-Leads, Body 6.5x4.4mm, Pitch 0.65mm, Exposed Pad, IPC Medium Density)
footprint MXA20A_L (TSOP, 20-Leads, Body 6.5x4.4mm, Pitch 0.65mm, Exposed Pad, IPC High Density)
footprint MXA20A_M (TSOP, 20-Leads, Body 6.5x4.4mm, Pitch 0.65mm, Exposed Pad, IPC Low Density)
pins: 1 VIN (power), 2 UVLO (in), 3 RT (in), 4 EN (in), 5 RAMP (in), 6 AGND (power), 7 SS (in), 8 FB (in), 9 COMP (out), 10 VOUT (out), 11 SYNC (in), 12 CS (in), 13 CSG (in), 14 PGND (power), 15 LO (out), 16 VCC (power), 17 VCCX (power), 18 HB (in), 19 HO (out), 20 HS (in), 21 EP (power)

## LM5118Q1MH
designator U?
Wide Voltage Range Buck-Boost Controller, Automotive Grade, 20-pin TSSOP-EP; PartNumber: LM5118Q1MH; Manufacturer: National Semiconductor; PackageTopMarking: NSUZXYTT*LM5118*Q1MH; PowerWise: N; CompType: Switcher; Published: 9-Oct-2009; DatasheetVersion: Jul-2009; PackageVersion: revC, Jul-2006; PackageReference: MXA20A; Publisher: Altium Limited; PackageDescription: Molded TSSOP, Jedec, 6.5 x 4.4 x 0.9mm Body, 20 Lead, 0.65mm Pitch, Exposed Pad; RoHS: Y; PinCount: 20; Code_JEDEC: MO-153-ACT; ComponentLink1Description: LM5118 Datasheet; ComponentLink1URL: http://www.national.com/ds/LM/LM5118.pdf; ComponentLink2Description: LM5118 Web Page; ComponentLink2URL: http://www.national.com/pf/LM/LM5118.html; ComponentLink3Description: MXA20A Package Page; ComponentLink3URL: http://www.national.com/packaging/folders/mxa20a.html
footprint MXA20A_N (TSOP, 20-Leads, Body 6.5x4.4mm, Pitch 0.65mm, Exposed Pad, IPC Medium Density)
footprint MXA20A_L (TSOP, 20-Leads, Body 6.5x4.4mm, Pitch 0.65mm, Exposed Pad, IPC High Density)
footprint MXA20A_M (TSOP, 20-Leads, Body 6.5x4.4mm, Pitch 0.65mm, Exposed Pad, IPC Low Density)
pins: 1 VIN (power), 2 UVLO (in), 3 RT (in), 4 EN (in), 5 RAMP (in), 6 AGND (power), 7 SS (in), 8 FB (in), 9 COMP (out), 10 VOUT (out), 11 SYNC (in), 12 CS (in), 13 CSG (in), 14 PGND (power), 15 LO (out), 16 VCC (power), 17 VCCX (power), 18 HB (in), 19 HO (out), 20 HS (in), 21 EP (power)

## LM5118Q1MH/NOPB
designator U?
Wide Voltage Range Buck-Boost Controller, 20-pin TSSOP-EP, Pb-Free; PartNumber: LM5118Q1MH/NOPB; Manufacturer: National Semiconductor; PackageTopMarking: NSUZXYTT*LM5118*Q1MH; PowerWise: N; CompType: Switcher; Published: 1-Mar-2010; DatasheetVersion: Jul-2009; PackageVersion: revC, Jul-2006; PackageReference: MXA20A; Publisher: Altium Limited; PackageDescription: Molded TSSOP, Jedec, 6.5 x 4.4 x 0.9mm Body, 20 Lead, 0.65mm Pitch, Exposed Pad; Supplier 1: Digi-Key; Supplier Part Number 1: LM5118Q1MH-ND; RoHS: Y; PinCount: 20; Code_JEDEC: MO-153-ACT; ComponentLink1Description: LM5118 Datasheet; ComponentLink1URL: http://www.national.com/ds/LM/LM5118.pdf; ComponentLink2Description: LM5118 Web Page; ComponentLink2URL: http://www.national.com/pf/LM/LM5118.html; ComponentLink3Description: MXA20A Package Page; ComponentLink3URL: http://www.national.com/packaging/folders/mxa20a.html
footprint MXA20A_N (TSOP, 20-Leads, Body 6.5x4.4mm, Pitch 0.65mm, Exposed Pad, IPC Medium Density)
footprint MXA20A_L (TSOP, 20-Leads, Body 6.5x4.4mm, Pitch 0.65mm, Exposed Pad, IPC High Density)
footprint MXA20A_M (TSOP, 20-Leads, Body 6.5x4.4mm, Pitch 0.65mm, Exposed Pad, IPC Low Density)
pins: 1 VIN (power), 2 UVLO (in), 3 RT (in), 4 EN (in), 5 RAMP (in), 6 AGND (power), 7 SS (in), 8 FB (in), 9 COMP (out), 10 VOUT (out), 11 SYNC (in), 12 CS (in), 13 CSG (in), 14 PGND (power), 15 LO (out), 16 VCC (power), 17 VCCX (power), 18 HB (in), 19 HO (out), 20 HS (in), 21 EP (power)

## LM5118Q1MHX/NOPB
designator U?
Wide Voltage Range Buck-Boost Controller, 20-pin TSSOP-EP, Pb-Free; PartNumber: LM5118Q1MHX/NOPB; Manufacturer: National Semiconductor; PackageTopMarking: NSUZXYTT*LM5118*Q1MH; PowerWise: N; CompType: Switcher; Published: 1-Mar-2010; DatasheetVersion: Jul-2009; PackageVersion: revC, Jul-2006; PackageReference: MXA20A; Publisher: Altium Limited; PackageDescription: Molded TSSOP, Jedec, 6.5 x 4.4 x 0.9mm Body, 20 Lead, 0.65mm Pitch, Exposed Pad; Supplier 1: Digi-Key; Supplier Part Number 1: LM5118Q1MHX-ND; RoHS: Y; PinCount: 20; Code_JEDEC: MO-153-ACT; ComponentLink1Description: LM5118 Datasheet; ComponentLink1URL: http://www.national.com/ds/LM/LM5118.pdf; ComponentLink2Description: LM5118 Web Page; ComponentLink2URL: http://www.national.com/pf/LM/LM5118.html; ComponentLink3Description: MXA20A Package Page; ComponentLink3URL: http://www.national.com/packaging/folders/mxa20a.html
footprint MXA20A_N (TSOP, 20-Leads, Body 6.5x4.4mm, Pitch 0.65mm, Exposed Pad, IPC Medium Density)
footprint MXA20A_L (TSOP, 20-Leads, Body 6.5x4.4mm, Pitch 0.65mm, Exposed Pad, IPC High Density)
footprint MXA20A_M (TSOP, 20-Leads, Body 6.5x4.4mm, Pitch 0.65mm, Exposed Pad, IPC Low Density)
pins: 1 VIN (power), 2 UVLO (in), 3 RT (in), 4 EN (in), 5 RAMP (in), 6 AGND (power), 7 SS (in), 8 FB (in), 9 COMP (out), 10 VOUT (out), 11 SYNC (in), 12 CS (in), 13 CSG (in), 14 PGND (power), 15 LO (out), 16 VCC (power), 17 VCCX (power), 18 HB (in), 19 HO (out), 20 HS (in), 21 EP (power)

## LM5574MT
designator U?
SIMPLE SWITCHER® 75V, 0.5A Step-Down Switching Regulator, 16-pin TSSOP; PartNumber: LM5574MT; Manufacturer: National Semiconductor; PackageTopMarking: NSUZXYTT*LM5574*MT; PowerWise: Y; Published: 4-Dec-2008; DatasheetVersion: Mar-2007; PackageVersion: revD, Jun-2003; PackageReference: MTC16; Publisher: Altium Limited; PackageDescription: Molded TSSOP, Jedec, 5 x 4.4 x 0.9mm Body, 16 Lead, 0.65mm Pitch; Supplier 1: Farnell; Supplier Part Number 1: 1325419; RoHS: N; PinCount: 16; CompType: Switcher; Code_JEDEC: MO-153-AB; ComponentLink1Description: LM5574 Datasheet; ComponentLink1URL: http://www.national.com/ds/LM/LM5574.pdf; ComponentLink2Description: LM5574 Web Page; ComponentLink2URL: http://www.national.com/pf/LM/LM5574.html; ComponentLink3Description: MTC16 Package Page; ComponentLink3URL: http://www.national.com/packaging/folders/mtc16.html
footprint MTC16_N (TSOP, 16-Leads, Body 5x4.4mm, Pitch 0.65mm, IPC Medium Density)
footprint MTC16_L (TSOP, 16-Leads, Body 5x4.4mm, Pitch 0.65mm, IPC High Density)
footprint MTC16_M (TSOP, 16-Leads, Body 5x4.4mm, Pitch 0.65mm, IPC Low Density)
pins: 1 VCC (power), 2 SD, 3 VIN (power), 4 SYNC, 5 COMP, 6 FB (in), 7 RT (in), 8 RAMP, 9 AGND (power), 10 SS (in), 11 OUT (power), 12 PGND (power), 13 IS (in), 14 SW (power), 15 PRE (oc), 16 BST

## LM5574MT/NOPB
designator U?
SIMPLE SWITCHER® 75V, 0.5A Step-Down Switching Regulator, 16-pin TSSOP, Pb-Free; PartNumber: LM5574MT/NOPB; Manufacturer: National Semiconductor; PackageTopMarking: NSUZXYTT*LM5574*MT; PowerWise: Y; Published: 1-Mar-2010; DatasheetVersion: Mar-2007; PackageVersion: revD, Jun-2003; PackageReference: MTC16; Publisher: Altium Limited; PackageDescription: Molded TSSOP, Jedec, 5 x 4.4 x 0.9mm Body, 16 Lead, 0.65mm Pitch; Supplier 1: Digi-Key; Supplier Part Number 1: LM5574MT-ND; Supplier 2: Farnell; Supplier Part Number 2: 1364361; RoHS: Y; PinCount: 16; CompType: Switcher; Code_JEDEC: MO-153-AB; ComponentLink1Description: LM5574 Datasheet; ComponentLink1URL: http://www.national.com/ds/LM/LM5574.pdf; ComponentLink2Description: LM5574 Web Page; ComponentLink2URL: http://www.national.com/pf/LM/LM5574.html; ComponentLink3Description: MTC16 Package Page; ComponentLink3URL: http://www.national.com/packaging/folders/mtc16.html
footprint MTC16_N (TSOP, 16-Leads, Body 5x4.4mm, Pitch 0.65mm, IPC Medium Density)
footprint MTC16_L (TSOP, 16-Leads, Body 5x4.4mm, Pitch 0.65mm, IPC High Density)
footprint MTC16_M (TSOP, 16-Leads, Body 5x4.4mm, Pitch 0.65mm, IPC Low Density)
pins: 1 VCC (power), 2 SD, 3 VIN (power), 4 SYNC, 5 COMP, 6 FB (in), 7 RT (in), 8 RAMP, 9 AGND (power), 10 SS (in), 11 OUT (power), 12 PGND (power), 13 IS (in), 14 SW (power), 15 PRE (oc), 16 BST

## LM5574MTX
designator U?
SIMPLE SWITCHER® 75V, 0.5A Step-Down Switching Regulator, 16-pin TSSOP; PartNumber: LM5574MTX; Manufacturer: National Semiconductor; PackageTopMarking: NSUZXYTT*LM5574*MT; PowerWise: Y; Published: 1-Mar-2010; DatasheetVersion: Mar-2007; PackageVersion: revD, Jun-2003; PackageReference: MTC16; Publisher: Altium Limited; PackageDescription: Molded TSSOP, Jedec, 5 x 4.4 x 0.9mm Body, 16 Lead, 0.65mm Pitch; RoHS: N; PinCount: 16; CompType: Switcher; Code_JEDEC: MO-153-AB; ComponentLink1Description: LM5574 Datasheet; ComponentLink1URL: http://www.national.com/ds/LM/LM5574.pdf; ComponentLink2Description: LM5574 Web Page; ComponentLink2URL: http://www.national.com/pf/LM/LM5574.html; ComponentLink3Description: MTC16 Package Page; ComponentLink3URL: http://www.national.com/packaging/folders/mtc16.html
footprint MTC16_N (TSOP, 16-Leads, Body 5x4.4mm, Pitch 0.65mm, IPC Medium Density)
footprint MTC16_L (TSOP, 16-Leads, Body 5x4.4mm, Pitch 0.65mm, IPC High Density)
footprint MTC16_M (TSOP, 16-Leads, Body 5x4.4mm, Pitch 0.65mm, IPC Low Density)
pins: 1 VCC (power), 2 SD, 3 VIN (power), 4 SYNC, 5 COMP, 6 FB (in), 7 RT (in), 8 RAMP, 9 AGND (power), 10 SS (in), 11 OUT (power), 12 PGND (power), 13 IS (in), 14 SW (power), 15 PRE (oc), 16 BST

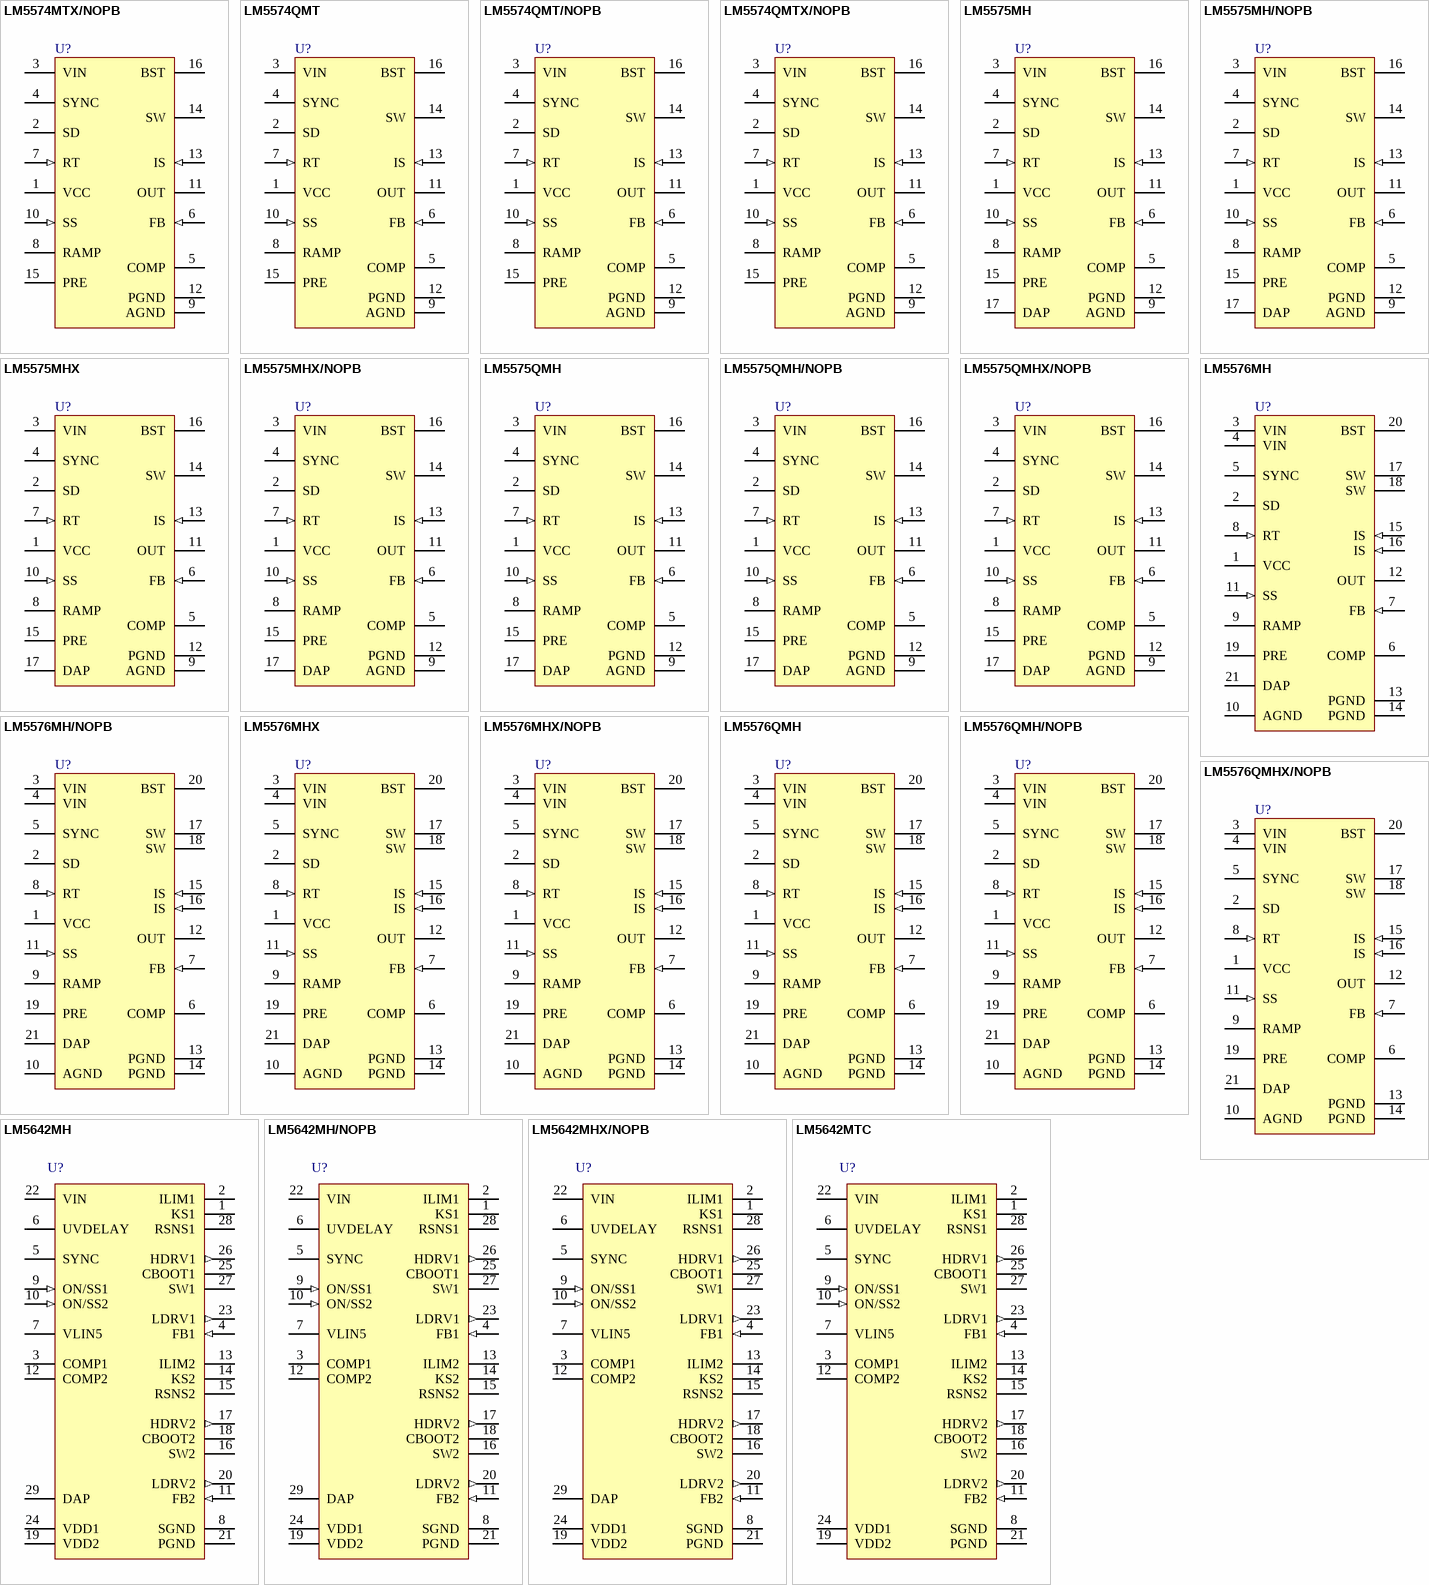
[diagram p45: symbols LM5574MTX/NOPB to LM5642MTC]

## LM5574MTX/NOPB
designator U?
SIMPLE SWITCHER® 75V, 0.5A Step-Down Switching Regulator, 16-pin TSSOP, Pb-Free; PartNumber: LM5574MTX/NOPB; Manufacturer: National Semiconductor; PackageTopMarking: NSUZXYTT*LM5574*MT; PowerWise: Y; Published: 1-Mar-2010; DatasheetVersion: Mar-2007; PackageVersion: revD, Jun-2003; PackageReference: MTC16; Publisher: Altium Limited; PackageDescription: Molded TSSOP, Jedec, 5 x 4.4 x 0.9mm Body, 16 Lead, 0.65mm Pitch; Supplier 1: Digi-Key; Supplier Part Number 1: LM5574MTX-ND; RoHS: Y; PinCount: 16; CompType: Switcher; Code_JEDEC: MO-153-AB; ComponentLink1Description: LM5574 Datasheet; ComponentLink1URL: http://www.national.com/ds/LM/LM5574.pdf; ComponentLink2Description: LM5574 Web Page; ComponentLink2URL: http://www.national.com/pf/LM/LM5574.html; ComponentLink3Description: MTC16 Package Page; ComponentLink3URL: http://www.national.com/packaging/folders/mtc16.html
footprint MTC16_N (TSOP, 16-Leads, Body 5x4.4mm, Pitch 0.65mm, IPC Medium Density)
footprint MTC16_L (TSOP, 16-Leads, Body 5x4.4mm, Pitch 0.65mm, IPC High Density)
footprint MTC16_M (TSOP, 16-Leads, Body 5x4.4mm, Pitch 0.65mm, IPC Low Density)
pins: 1 VCC (power), 2 SD, 3 VIN (power), 4 SYNC, 5 COMP, 6 FB (in), 7 RT (in), 8 RAMP, 9 AGND (power), 10 SS (in), 11 OUT (power), 12 PGND (power), 13 IS (in), 14 SW (power), 15 PRE (oc), 16 BST

## LM5574QMT
designator U?
SIMPLE SWITCHER® 75V, 0.5A Step-Down Switching Regulator, 16-pin TSSOP; PartNumber: LM5574QMT; Manufacturer: National Semiconductor; PackageTopMarking: NSUZXYTT*LM5574*QMT; PowerWise: N; Published: 29-May-2009; DatasheetVersion: Feb-2009; PackageVersion: revD, Jun-2003; PackageReference: MTC16; Publisher: Altium Limited; PackageDescription: Molded TSSOP, Jedec, 5 x 4.4 x 0.9mm Body, 16 Lead, 0.65mm Pitch; RoHS: Y; PinCount: 16; CompType: Switcher; Code_JEDEC: MO-153-AB; ComponentLink1Description: LM5574 Datasheet; ComponentLink1URL: http://www.national.com/ds/LM/LM5574.pdf; ComponentLink2Description: LM5574 Web Page; ComponentLink2URL: http://www.national.com/pf/LM/LM5574.html; ComponentLink3Description: MTC16 Package Page; ComponentLink3URL: http://www.national.com/packaging/folders/mtc16.html
footprint MTC16_N (TSOP, 16-Leads, Body 5x4.4mm, Pitch 0.65mm, IPC Medium Density)
footprint MTC16_L (TSOP, 16-Leads, Body 5x4.4mm, Pitch 0.65mm, IPC High Density)
footprint MTC16_M (TSOP, 16-Leads, Body 5x4.4mm, Pitch 0.65mm, IPC Low Density)
pins: 1 VCC (power), 2 SD, 3 VIN (power), 4 SYNC, 5 COMP, 6 FB (in), 7 RT (in), 8 RAMP, 9 AGND (power), 10 SS (in), 11 OUT (power), 12 PGND (power), 13 IS (in), 14 SW (power), 15 PRE (oc), 16 BST

## LM5574QMT/NOPB
designator U?
SIMPLE SWITCHER® 75V, 0.5A Step-Down Switching Regulator, 16-pin TSSOP, Pb-Free; PartNumber: LM5574QMT/NOPB; Manufacturer: National Semiconductor; PackageTopMarking: NSUZXYTT*LM5574*QMT; PowerWise: N; Published: 1-Mar-2010; DatasheetVersion: Feb-2009; PackageVersion: revD, Jun-2003; PackageReference: MTC16; Publisher: Altium Limited; PackageDescription: Molded TSSOP, Jedec, 5 x 4.4 x 0.9mm Body, 16 Lead, 0.65mm Pitch; Supplier 1: Digi-Key; Supplier Part Number 1: LM5574QMT-ND; RoHS: Y; PinCount: 16; CompType: Switcher; Code_JEDEC: MO-153-AB; ComponentLink1Description: LM5574 Datasheet; ComponentLink1URL: http://www.national.com/ds/LM/LM5574.pdf; ComponentLink2Description: LM5574 Web Page; ComponentLink2URL: http://www.national.com/pf/LM/LM5574.html; ComponentLink3Description: MTC16 Package Page; ComponentLink3URL: http://www.national.com/packaging/folders/mtc16.html
footprint MTC16_N (TSOP, 16-Leads, Body 5x4.4mm, Pitch 0.65mm, IPC Medium Density)
footprint MTC16_L (TSOP, 16-Leads, Body 5x4.4mm, Pitch 0.65mm, IPC High Density)
footprint MTC16_M (TSOP, 16-Leads, Body 5x4.4mm, Pitch 0.65mm, IPC Low Density)
pins: 1 VCC (power), 2 SD, 3 VIN (power), 4 SYNC, 5 COMP, 6 FB (in), 7 RT (in), 8 RAMP, 9 AGND (power), 10 SS (in), 11 OUT (power), 12 PGND (power), 13 IS (in), 14 SW (power), 15 PRE (oc), 16 BST